# Altium footprint library UCDFR Power Regulation.PcbLib: 5 footprints
Each footprint in its own frame and in the unit in brackets; x right, y up, seen from the top. Pads: shape width x height; smd on the part's side, far side on the other; paste and mask are expansions set on the pad; w line width, h text height; cw(c..) or ccw(c..) is an arc to the next point about the centre after c.
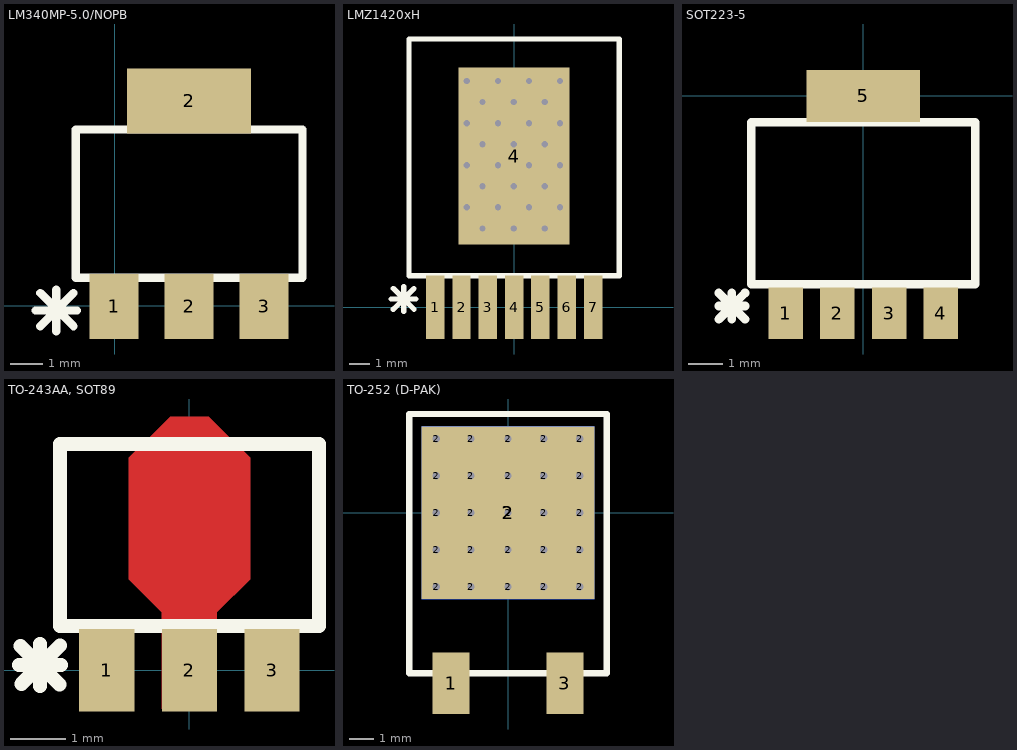
[diagram p0: the footprints below, top view; thin cyan lines are the x and y axes]

## LM340MP-5.0/NOPB [mm] "TI, 5V LDO"
height 1.8
pads (4):
  rect 1.5x2 smd: 1(-0.021,-0.027) 2(2.279,-0.027) 3(4.579,-0.027)
  rect 3.8x2 smd: 2(2.279,6.273)
Top Overlay:
  lines w0.254: -2.434,-0.154 -1.164,-0.154 ; -2.286,-0.635 -1.27,0.381 ; -2.286,0.381 -1.27,-0.635 ; -1.799,-0.789 -1.799,0.481 ; -1.196,0.848 5.754,0.848 5.754,5.398 -1.196,5.398 -1.196,0.848
3D body: height 1.7, standoff 0, extent -0.985,-0.352 5.515,6.648

## LMZ1420xH [mm] "TE, Monolithic Switching Regulator"
height 4.57
pads (36):
  rect 0.89x3.06 smd: 1(-3.81,0) 2(-2.54,0) 3(-1.27,0) 4(0,0) 5(1.27,0) 6(2.54,0) 7(3.81,0)
  round 0.3 hole 0.3: 4(-2.286,4.826) 4(-2.286,6.858) 4(-2.286,8.89) 4(-2.286,10.922) 4(-1.524,3.81) 4(-1.524,5.842) 4(-1.524,7.874) 4(-1.524,9.906) 4(-0.786,4.826) 4(-0.786,6.858) 4(-0.786,8.89) 4(-0.786,10.922) 4(-0.024,3.81) 4(-0.024,5.842) 4(-0.024,7.874) 4(-0.024,9.906) 4(0.714,4.826) 4(0.714,6.858) 4(0.714,8.89) 4(0.714,10.922) 4(1.476,3.81) 4(1.476,5.842) 4(1.476,7.874) 4(1.476,9.906) 4(2.214,4.826) 4(2.214,6.858) 4(2.214,8.89) 4(2.214,10.922)
  rect 5.35x8.54 smd: 4(0,7.305)
Top Overlay:
  lines w0.254: -5.933,0.406 -4.733,0.406 ; -5.833,-0.094 -4.833,0.906 ; -5.833,0.906 -4.833,-0.094 ; -5.333,-0.194 -5.333,1.006 ; -5.08,1.524 5.08,1.524 5.08,12.954 -5.08,12.954 -5.08,1.524
3D body: height 4.6, standoff -0.03, extent -4.925,-1.38 4.925,12.7

## SOT223-5 [mm]
height 1.6
pads (5):
  rect 1x1.5 smd: 1(-2.25,-6.3) 2(-0.75,-6.3) 3(0.75,-6.3) 4(2.25,-6.3)
  rect 3.3x1.5 smd: 5(0,0)
Top Overlay:
  lines w0.254: -4.191,-6.477 -3.429,-5.715 ; -4.191,-6.096 -3.429,-6.096 ; -4.191,-5.715 -3.429,-6.477 ; -3.81,-6.477 -3.81,-5.715 ; -3.25,-5.461 -3.25,-0.762 3.25,-0.762 3.25,-5.461 -3.25,-5.461
3D body: height 1.7, standoff 0, extent -3.25,-6.528 3.25,0.432

## TO-243AA, SOT89 [mm] "TO-243AA, SOT89"
pads (3):
  rect 1x1.5 smd: 1(-1.5,0) 2(0,0) 3(1.5,0)
Top Layer:
  region: -0.5,-0.7 -0.5,1.05 -1.1,1.65 -1.1,3.85 -0.35,4.6 0.35,4.6 1.1,3.85 1.1,1.65 0.5,1.05 0.5,-0.7
Top Overlay:
  lines w0.254: -3.091,0.09 -2.329,0.09 ; -3.06,0.44 -2.36,-0.26 ; -3.05,-0.25 -2.35,0.45 ; -2.71,-0.291 -2.71,0.471 ; -2.35,0.8 -2.35,4.1 2.35,4.1 2.35,0.8 -2.35,0.8

## TO-252 (D-PAK) [mm] "TO-252 (D-PAK)"
pads (29):
  rect 1.5x2.5 smd: 1(-2.3,-6.9) 3(2.3,-6.9)
  round 0.5 hole 0.3: 2(-2.9,-3) 2(-2.9,-1.5) 2(-2.9,0) 2(-2.9,1.5) 2(-2.9,3.002) 2(-1.5,-3) 2(-1.5,-1.5) 2(-1.5,0) 2(-1.5,1.5) 2(-1.5,3.002) 2(0,-3) 2(0,-1.5) 2(0,0) 2(0,1.5) 2(0,3.002) 2(1.45,-3) 2(1.45,-1.5) 2(1.45,0) 2(1.45,1.5) 2(1.45,3.002) 2(2.9,-3) 2(2.9,-1.5) 2(2.9,0) 2(2.9,1.5) 2(2.9,3.002)
  rect 7x7 smd: 2(0,0)
  rect 7x7 smd far side: 2(0,0)
Top Overlay:
  lines w0.254: -4,-6.5 -4,4 4,4 4,-6.5 -4,-6.5
3D body: height 2.37, standoff -0.03, extent -3.367,-7.098 3.367,3.002